# EAGLE library part FDMT80080DC (library FDMT80080DC 2)
Max rDS(on) = 1.35 m at VGS = 10 V, ID = 36 A ; MSL1 robust package design ; Advanced Package and Silicon combination for low rDS(on) and high efficiency ; Next generation enhanced body diode technology, engineered for soft recovery ; 100% UIL tested ; Low profile 8x8mm MLP package ; Max rDS(on) = 1.82 m at VGS = 8 V, ID = 31 A ; RoHS Compliant Source: Datasheet <https://www.onsemi.com/pub/Collateral/FDMT80080DC-D.pdf>
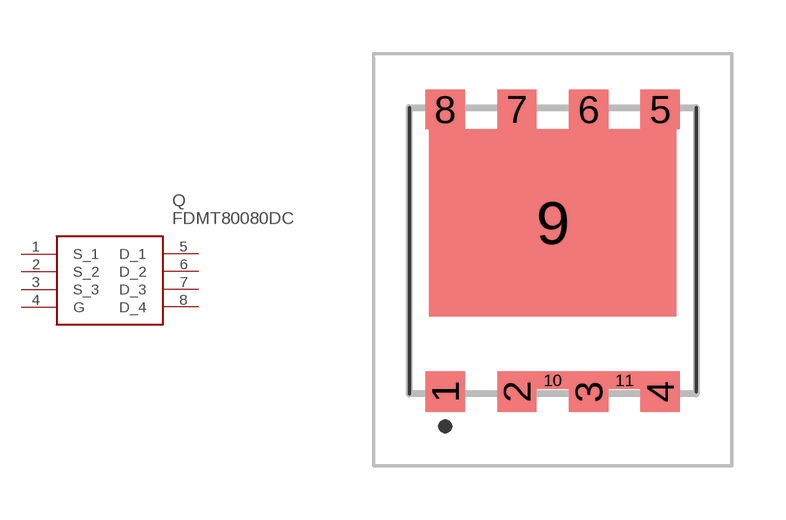
[diagram p0: symbol with the pads of FDMT80040DC; footprint FDMT80040DC]

Designator prefix Q

## FDMT80080DC (Description: Max rDS(on) = 1.35 m at VGS = 10 V, ID = 36 A ; MSL1 robust package design ; Advanced Package and Silicon combination for low rDS(on) and high efficiency ; Next generation enhanced body diode technology, engineered for soft recovery ; 100% UIL tested ; Low profile 8x8mm MLP package ; Max rDS(on) = 1.82 m at VGS = 8 V, ID = 31 A ; RoHS Compliant; Height: mm; Manufacturer_Name: onsemi; Manufacturer_Part_Number: FDMT80080DC; Mouser_Part_Number: 512-FDMT80080DC; Mouser_Price-Stock: https://www.mouser.co.uk/ProductDetail/onsemi-Fairchild/FDMT80080DC?qs=HNBw3F7vE2wScr8WdXWm%252Bg%3D%3D)  [FDMT80040DC]
1  S_1
2  S_2
3  S_3
4  G
5  D_1
6  D_2
7  D_3
8  D_4

## Footprint FDMT80040DC (pad centres in mm)
PQFN8 8X8, 2P CASE 483AQ ISSUE O
smd 1.1 x 1.13: 1 -3,-3.935; 2 -1,-3.935; 3 1,-3.935; 4 3,-3.935
smd 1.1 x 1.1: 5 3,3.95; 6 1,3.95; 7 -1,3.95; 8 -3,3.95
smd 6.9 x 5.23: 9 0,0.785
smd 0.9 x 0.48: 10 0,-3.61; 11 2,-3.61